# Altium integrated library INMP441ACEZ-R7.IntLib: 1 symbol
Pins are listed as number, name and electrical type; pins without a type are passive.

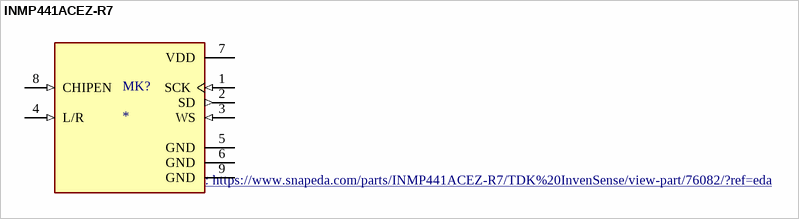
[diagram p0: symbol INMP441ACEZ-R7]

## INMP441ACEZ-R7
designator MK?
60Hz ~ 15kHz Digital, IÂ²S Microphone MEMS (Silicon) 1.62V ~ 3.63V Omnidirectional (-26dB Â±3dB @ 94dB SPL) Solder Pads; MP: INMP441ACEZ-R7; MF: TDK InvenSense; Package: QFN-24 InvenSense; SnapEDA_Link: https://www.snapeda.com/parts/INMP441ACEZ-R7/TDK%20InvenSense/view-part/76082/?ref=snap; Availability: Bad; Price: None; Value: *; Check_prices: https://www.snapeda.com/parts/INMP441ACEZ-R7/TDK%20InvenSense/view-part/76082/?ref=eda
footprint MIC_INMP441ACEZ-R7
pins: 1 SCK (in), 2 SD (out), 3 WS (in), 4 L/R (in), 5 GND (power), 6 GND (power), 7 VDD (power), 8 CHIPEN (in), 9 GND (power)